# Altium schematic symbol library TF-01A.SchLib: 1 symbol
Pins are listed as number, name and electrical type; pins without a type are passive.

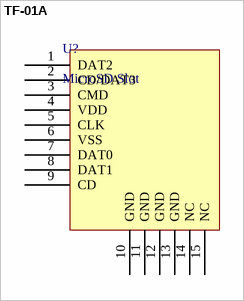
[diagram p0: symbol TF-01A]

## TF-01A
designator U?, comment MicroSD Slot
1.85mm Card Slot MicroSD card (TF card) Self-bouncing SMD SD Card / Memory Card Connector ROHS; Parameter 1: *
footprint TF-01A
pins: 1 DAT2, 2 CD/DAT3, 3 CMD, 4 VDD, 5 CLK, 6 VSS, 7 DAT0, 8 DAT1, 9 CD, 10 GND, 11 GND, 12 GND, 13 GND, 14 NC, 15 NC